# Altium integrated library NSC Interface.IntLib: 511 symbols (part 15 of 17)
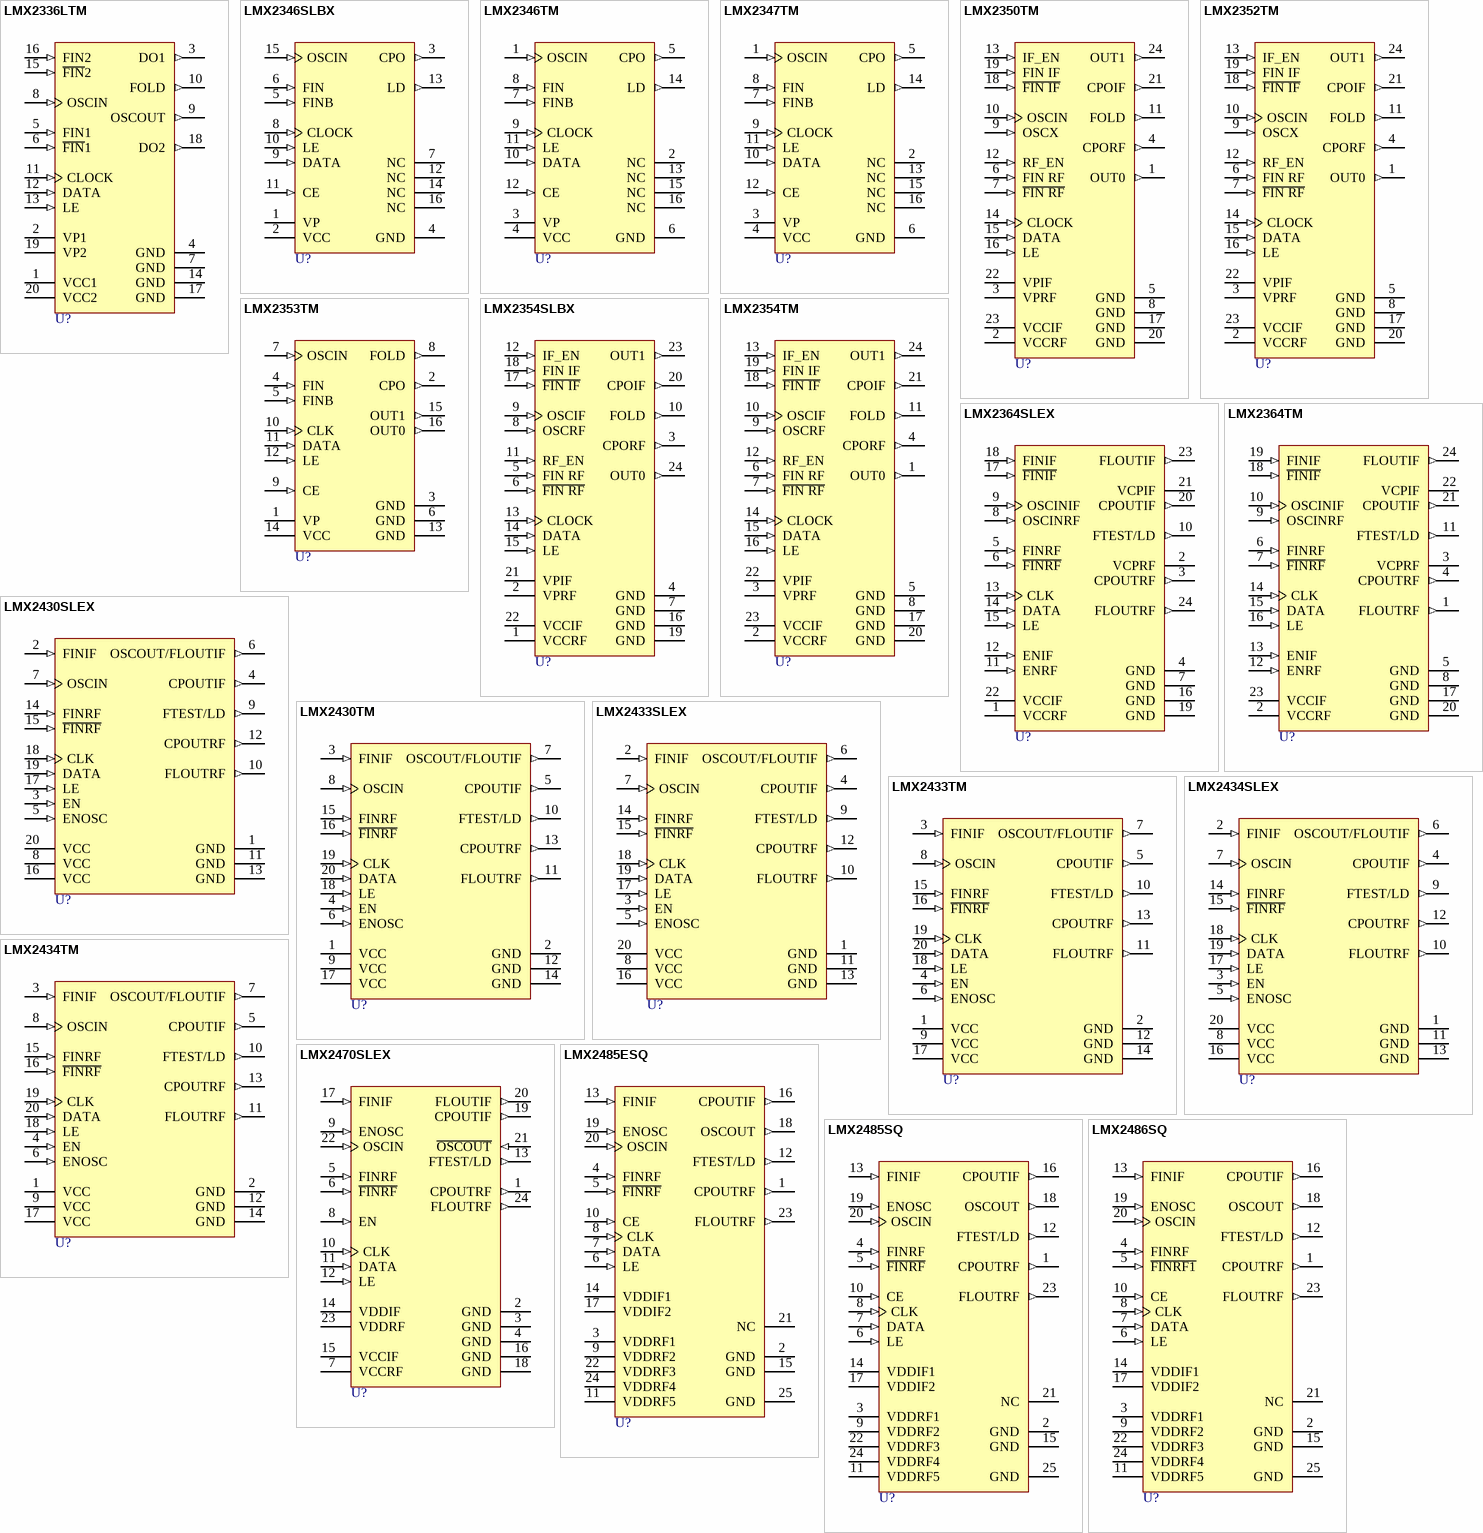
[diagram p56: symbols LMX2336LTM to LMX2486SQ]

## LMX2485SQ
designator U?
Delta-Sigma Low Power Dual PLL for RF Personal Communications; PartNumber: LMX2485SQ; Manufacturer: National Semiconductor; CompType: Interface IC; PackageTopMarking: NS*UZXYTT*X2485DD; PowerWise: N; Published: 4-Dec-2008; DatasheetVersion: Feb-2008; PackageVersion: revB, Aug-2003; PackageReference: SQA24A; Publisher: Altium Limited; PackageDescription: LLP, Plastic, Quad, 4 x 4 x 0.8mm Body, 24 Lead, 0.5mm Pitch, No Pullback; RoHS: Y; PinCount: 24; DigiKeyPartNumber: LMX2485SQTR-ND; Code_JEDEC: MO-220-WGGD-6; ComponentLink1Description: LMX2485 Datasheet; ComponentLink1URL: http://www.national.com/ds/LM/LMX2485.pdf; ComponentLink2Description: LMX2485 Web Page; ComponentLink2URL: http://www.national.com/pf/LM/LMX2485.html; ComponentLink3Description: SQA24A Package Page; ComponentLink3URL: http://www.national.com/packaging/folders/sqa24a.html
footprint SQA24A (QFN, 24-Leads, Body 4x4mm, Pitch 0.5mm, NSC Recommended)
pins: 1 CPOUTRF (out), 2 GND (power), 3 VDDRF1 (power), 4 FINRF (in), 5 ~{FINRF} (in), 6 LE (in), 7 DATA (in), 8 CLK (in), 9 VDDRF2 (power), 10 CE (in), 11 VDDRF5 (power), 12 FTEST/LD (out), 13 FINIF (in), 14 VDDIF1 (power), 15 GND (power), 16 CPOUTIF (out), 17 VDDIF2 (power), 18 OSCOUT (out), 19 ENOSC (in), 20 OSCIN (in), 21 NC, 22 VDDRF3 (power), 23 FLOUTRF (out), 24 VDDRF4 (power), 25 GND (power)

## LMX2486SQ
designator U?
Delta-Sigma Low Power Dual PLL for RF Personal Communications; PartNumber: LMX2486SQ; Manufacturer: National Semiconductor; CompType: Interface IC; PackageTopMarking: NS*UZXYTT*L2486SQ; PowerWise: N; Published: 4-Dec-2008; DatasheetVersion: Jan-2006; PackageVersion: revB, Aug-2003; PackageReference: SQA24A; Publisher: Altium Limited; PackageDescription: LLP, Plastic, Quad, 4 x 4 x 0.8mm Body, 24 Lead, 0.5mm Pitch, No Pullback; RoHS: Y; PinCount: 24; DigiKeyPartNumber: LMX2486SQTR-ND; Code_JEDEC: MO-220-WGGD-6; ComponentLink1Description: LMX2486 Datasheet; ComponentLink1URL: http://www.national.com/ds/LM/LMX2486.pdf; ComponentLink2Description: LMX2486 Web Page; ComponentLink2URL: http://www.national.com/pf/LM/LMX2486.html; ComponentLink3Description: SQA24A Package Page; ComponentLink3URL: http://www.national.com/packaging/folders/sqa24a.html
footprint SQA24A (QFN, 24-Leads, Body 4x4mm, Pitch 0.5mm, NSC Recommended)
pins: 1 CPOUTRF (out), 2 GND (power), 3 VDDRF1 (power), 4 FINRF (in), 5 ~{FINRF1} (in), 6 LE (in), 7 DATA (in), 8 CLK (in), 9 VDDRF2 (power), 10 CE (in), 11 VDDRF5 (power), 12 FTEST/LD (out), 13 FINIF (in), 14 VDDIF1 (power), 15 GND (power), 16 CPOUTIF (out), 17 VDDIF2 (power), 18 OSCOUT (out), 19 ENOSC (in), 20 OSCIN (in), 21 NC, 22 VDDRF3 (power), 23 FLOUTRF (out), 24 VDDRF4 (power), 25 GND (power)

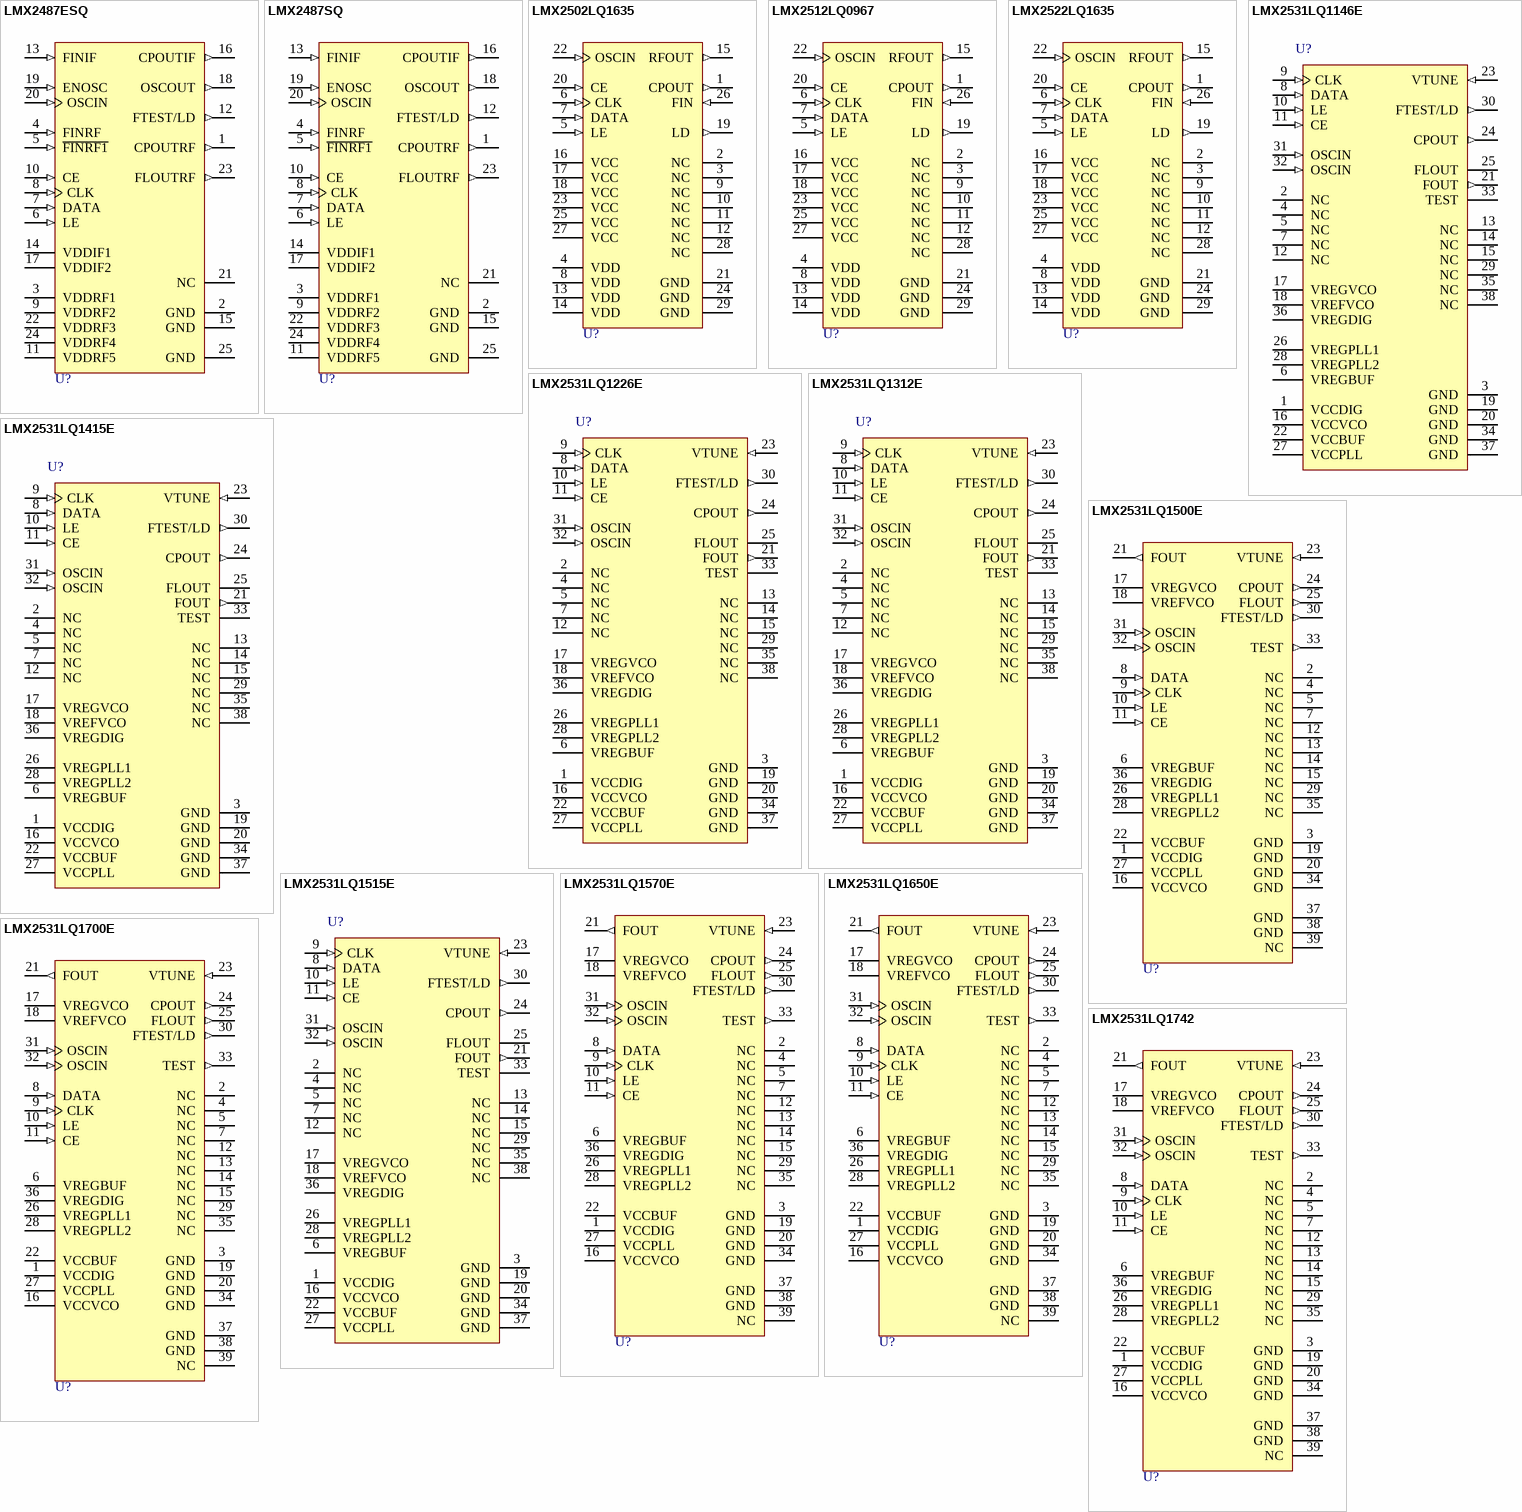
[diagram p36: symbols LMX2487ESQ to LMX2531LQ1742]

## LMX2487ESQ
designator U?
Delta-Sigma Low Power Dual PLL for RF Personal Communications; PartNumber: LMX2487ESQ; Manufacturer: National Semiconductor; CompType: Interface IC; PackageTopMarking: NS*UZXYTT*2487EDD; PowerWise: N; Published: 4-Dec-2008; DatasheetVersion: May-2007; PackageVersion: revB, Aug-2003; PackageReference: SQA24A; Publisher: Altium Limited; PackageDescription: LLP, Plastic, Quad, 4 x 4 x 0.8mm Body, 24 Lead, 0.5mm Pitch, No Pullback; RoHS: Y; PinCount: 24; DigiKeyPartNumber: LMX2487ESQTR-ND; Code_JEDEC: MO-220-WGGD-6; ComponentLink1Description: LMX2487E Datasheet; ComponentLink1URL: http://www.national.com/ds/LM/LMX2487E.pdf; ComponentLink2Description: LMX2487E Web Page; ComponentLink2URL: http://www.national.com/pf/LM/LMX2487E.html; ComponentLink3Description: SQA24A Package Page; ComponentLink3URL: http://www.national.com/packaging/folders/sqa24a.html
footprint SQA24A (QFN, 24-Leads, Body 4x4mm, Pitch 0.5mm, NSC Recommended)
pins: 1 CPOUTRF (out), 2 GND (power), 3 VDDRF1 (power), 4 FINRF (in), 5 ~{FINRF1} (in), 6 LE (in), 7 DATA (in), 8 CLK (in), 9 VDDRF2 (power), 10 CE (in), 11 VDDRF5 (power), 12 FTEST/LD (out), 13 FINIF (in), 14 VDDIF1 (power), 15 GND (power), 16 CPOUTIF (out), 17 VDDIF2 (power), 18 OSCOUT (out), 19 ENOSC (in), 20 OSCIN (in), 21 NC, 22 VDDRF3 (power), 23 FLOUTRF (out), 24 VDDRF4 (power), 25 GND (power)

## LMX2487SQ
designator U?
Delta-Sigma Low Power Dual PLL for RF Personal Communications; PartNumber: LMX2487SQ; Manufacturer: National Semiconductor; CompType: Interface IC; PackageTopMarking: NS*UZXYTT*L2487SQ; PowerWise: N; Published: 4-Dec-2008; DatasheetVersion: Apr-2008; PackageVersion: revB, Aug-2003; PackageReference: SQA24A; Publisher: Altium Limited; PackageDescription: LLP, Plastic, Quad, 4 x 4 x 0.8mm Body, 24 Lead, 0.5mm Pitch, No Pullback; RoHS: Y; PinCount: 24; DigiKeyPartNumber: LMX2487SQTR-ND; Code_JEDEC: MO-220-WGGD-6; ComponentLink1Description: LMX2487 Datasheet; ComponentLink1URL: http://www.national.com/ds/LM/LMX2487.pdf; ComponentLink2Description: LMX2487 Web Page; ComponentLink2URL: http://www.national.com/pf/LM/LMX2487.html; ComponentLink3Description: SQA24A Package Page; ComponentLink3URL: http://www.national.com/packaging/folders/sqa24a.html
footprint SQA24A (QFN, 24-Leads, Body 4x4mm, Pitch 0.5mm, NSC Recommended)
pins: 1 CPOUTRF (out), 2 GND (power), 3 VDDRF1 (power), 4 FINRF (in), 5 ~{FINRF1} (in), 6 LE (in), 7 DATA (in), 8 CLK (in), 9 VDDRF2 (power), 10 CE (in), 11 VDDRF5 (power), 12 FTEST/LD (out), 13 FINIF (in), 14 VDDIF1 (power), 15 GND (power), 16 CPOUTIF (out), 17 VDDIF2 (power), 18 OSCOUT (out), 19 ENOSC (in), 20 OSCIN (in), 21 NC, 22 VDDRF3 (power), 23 FLOUTRF (out), 24 VDDRF4 (power), 25 GND (power)

## LMX2502LQ1635
designator U?
Frequency Synthesizer System with Integrated VCOs; PartNumber: LMX2502LQ1635; Manufacturer: National Semiconductor; CompType: Interface IC; PackageTopMarking: NS*GZXYTT*25021635; PowerWise: N; Published: 4-Dec-2008; DatasheetVersion: Jun-2003; PackageVersion: revB, Jul-2001; PackageReference: LQA28A; Publisher: Altium Limited; PackageDescription: LLP, Plastic, Quad, 5 x 5 x 0.75mm Body, 28 Lead, 0.5mm Pitch; RoHS: Y; PinCount: 28; DigiKeyPartNumber: LMX2502LQ1635TR-ND; Code_JEDEC: MO-220-WHHD-1; ComponentLink1Description: LMX2502 Datasheet; ComponentLink1URL: http://www.national.com/ds/LM/LMX2502.pdf; ComponentLink2Description: LMX2502 Web Page; ComponentLink2URL: http://www.national.com/pf/LM/LMX2502.html; ComponentLink3Description: LQA28A Package Page; ComponentLink3URL: http://www.national.com/packaging/folders/lqa28a.html
footprint LQA28A (PQFN, 28-Leads, Body 5x5mm, Pitch 0.5mm, NSC Recommended)
pins: 1 CPOUT (out), 2 NC , 3 NC , 4 VDD  (power), 5 LE  (in), 6 CLK  (in), 7 DATA  (in), 8 VDD  (power), 9 NC , 10 NC , 11 NC , 12 NC , 13 VDD  (power), 14 VDD  (power), 15 RFOUT (out), 16 VCC  (power), 17 VCC  (power), 18 VCC  (power), 19 LD  (out), 20 CE  (in), 21 GND  (power), 22 OSCIN (in), 23 VCC  (power), 24 GND  (power), 25 VCC  (power), 26 FIN (in), 27 VCC  (power), 28 NC , 29 GND  (power)

## LMX2512LQ0967
designator U?
Frequency Synthesizer System with Integrated VCO; PartNumber: LMX2512LQ0967; Manufacturer: National Semiconductor; CompType: Interface IC; PackageTopMarking: NS*GZXYTT*25120967; PowerWise: N; Published: 4-Dec-2008; DatasheetVersion: Jun-2003; PackageVersion: revB, Jul-2001; PackageReference: LQA28A; Publisher: Altium Limited; PackageDescription: LLP, Plastic, Quad, 5 x 5 x 0.75mm Body, 28 Lead, 0.5mm Pitch; RoHS: Y; PinCount: 28; DigiKeyPartNumber: LMX2512LQ0967TR-ND; Code_JEDEC: MO-220-WHHD-1; ComponentLink1Description: LMX2512 Datasheet; ComponentLink1URL: http://www.national.com/ds/LM/LMX2512.pdf; ComponentLink2Description: LMX2512 Web Page; ComponentLink2URL: http://www.national.com/pf/LM/LMX2512.html; ComponentLink3Description: LQA28A Package Page; ComponentLink3URL: http://www.national.com/packaging/folders/lqa28a.html
footprint LQA28A (PQFN, 28-Leads, Body 5x5mm, Pitch 0.5mm, NSC Recommended)
pins: 1 CPOUT (out), 2 NC , 3 NC , 4 VDD  (power), 5 LE  (in), 6 CLK  (in), 7 DATA  (in), 8 VDD  (power), 9 NC , 10 NC , 11 NC , 12 NC , 13 VDD  (power), 14 VDD  (power), 15 RFOUT (out), 16 VCC  (power), 17 VCC  (power), 18 VCC  (power), 19 LD  (out), 20 CE  (in), 21 GND  (power), 22 OSCIN (in), 23 VCC  (power), 24 GND  (power), 25 VCC  (power), 26 FIN (in), 27 VCC  (power), 28 NC , 29 GND  (power)

## LMX2522LQ1635
designator U?
PLLatinum Dual Frequency Synthesizer System with Integrated VCOs; PartNumber: LMX2522LQ1635; Manufacturer: National Semiconductor; CompType: Interface IC; PackageTopMarking: NS*GZXYTT*25221635; PowerWise: N; Published: 4-Dec-2008; DatasheetVersion: Jun-2003; PackageVersion: revB, Jul-2001; PackageReference: LQA28A; Publisher: Altium Limited; PackageDescription: LLP, Plastic, Quad, 5 x 5 x 0.75mm Body, 28 Lead, 0.5mm Pitch; RoHS: O; PinCount: 28; DigiKeyPartNumber: LMX2522LQ1635TR-ND; Code_JEDEC: MO-220-WHHD-1; ComponentLink1Description: LMX2522 Datasheet; ComponentLink1URL: http://www.national.com/ds/LM/LMX2522.pdf; ComponentLink2Description: LMX2522 Web Page; ComponentLink2URL: http://www.national.com/pf/LM/LMX2522.html; ComponentLink3Description: LQA28A Package Page; ComponentLink3URL: http://www.national.com/packaging/folders/lqa28a.html
footprint LQA28A (PQFN, 28-Leads, Body 5x5mm, Pitch 0.5mm, NSC Recommended)
pins: 1 CPOUT (out), 2 NC , 3 NC , 4 VDD  (power), 5 LE  (in), 6 CLK  (in), 7 DATA  (in), 8 VDD  (power), 9 NC , 10 NC , 11 NC , 12 NC , 13 VDD  (power), 14 VDD  (power), 15 RFOUT (out), 16 VCC  (power), 17 VCC  (power), 18 VCC  (power), 19 LD  (out), 20 CE  (in), 21 GND  (power), 22 OSCIN (in), 23 VCC  (power), 24 GND  (power), 25 VCC  (power), 26 FIN (in), 27 VCC  (power), 28 NC , 29 GND  (power)

## LMX2531LQ1146E
designator U?
High Performance Frequency Synthesizer System with Integrated VCO; PartNumber: LMX2531LQ1146E; Manufacturer: National Semiconductor; CompType: Interface IC; PackageTopMarking: NS*UZXYTT*311146E; PowerWise: Y; Published: 4-Dec-2008; DatasheetVersion: Jun-2009; PackageVersion: revB, Feb-2008; PackageReference: LQA36D; Publisher: Altium Limited; RoHS: Y; PinCount: 36; DigiKeyPartNumber: LMX2531LQ1146E-ND; ComponentLink1Description: LMX2531LQ1146E Datasheet; ComponentLink1URL: http://www.national.com/ds/LM/LMX2531LQ1146E.pdf; ComponentLink2Description: LMX2531LQ1146E Web Page; ComponentLink2URL: http://www.national.com/pf/LM/LMX2531LQ1146E.html; ComponentLink3Description: LQA36A Package Page; ComponentLink3URL: http://www.national.com/packaging/folders/lqa36a.html
footprint LQA36D (PQFN, 36-Leads, Body 6x6mm, Pitch 0.5mm, NSC Recommended)
pins: 1 VCCDIG (power), 2 NC, 3 GND (power), 4 NC, 5 NC, 6 VREGBUF (power), 7 NC, 8 DATA (in), 9 CLK (in), 10 LE (in), 11 CE (in), 12 NC, 13 NC, 14 NC, 15 NC, 16 VCCVCO (power), 17 VREGVCO (power), 18 VREFVCO (power), 19 GND (power), 20 GND (power), 21 FOUT (out), 22 VCCBUF (power), 23 VTUNE (in), 24 CPOUT (out), 25 FLOUT (oc), 26 VREGPLL1 (power), 27 VCCPLL (power), 28 VREGPLL2 (power), 29 NC, 30 FTEST/LD (out), 31 OSCIN (in), 32 OSCIN (in), 33 TEST, 34 GND (power), 35 NC, 36 VREGDIG (power), 37 GND, 38 NC

## LMX2531LQ1226E
designator U?
High Performance Frequency Synthesizer System with Integrated VCO; PartNumber: LMX2531LQ1226E; Manufacturer: National Semiconductor; CompType: Interface IC; PackageTopMarking: NS*UZXYTT*311226E; PowerWise: Y; Published: 4-Dec-2008; DatasheetVersion: Apr-2008; PackageVersion: revB, Feb-2008; PackageReference: LQA36D; Publisher: Altium Limited; RoHS: Y; PinCount: 36; DigiKeyPartNumber: LMX2531LQ1226E-ND; ComponentLink1Description: LMX2531LQ1226E Datasheet; ComponentLink1URL: http://www.national.com/ds/LM/LMX2531LQ1226E.pdf; ComponentLink2Description: LMX2531LQ1226E Web Page; ComponentLink2URL: http://www.national.com/pf/LM/LMX2531LQ1226E.html; ComponentLink3Description: LQA36A Package Page; ComponentLink3URL: http://www.national.com/packaging/folders/lqa36a.html
footprint LQA36D (PQFN, 36-Leads, Body 6x6mm, Pitch 0.5mm, NSC Recommended)
pins: 1 VCCDIG (power), 2 NC, 3 GND (power), 4 NC, 5 NC, 6 VREGBUF (power), 7 NC, 8 DATA (in), 9 CLK (in), 10 LE (in), 11 CE (in), 12 NC, 13 NC, 14 NC, 15 NC, 16 VCCVCO (power), 17 VREGVCO (power), 18 VREFVCO (power), 19 GND (power), 20 GND (power), 21 FOUT (out), 22 VCCBUF (power), 23 VTUNE (in), 24 CPOUT (out), 25 FLOUT (oc), 26 VREGPLL1 (power), 27 VCCPLL (power), 28 VREGPLL2 (power), 29 NC, 30 FTEST/LD (out), 31 OSCIN (in), 32 OSCIN (in), 33 TEST, 34 GND (power), 35 NC, 36 VREGDIG (power), 37 GND, 38 NC

## LMX2531LQ1312E
designator U?
High Performance Frequency Synthesizer System with Integrated VCO; PartNumber: LMX2531LQ1312E; Manufacturer: National Semiconductor; CompType: Interface IC; PackageTopMarking: NS*UZXYTT*311312E; PowerWise: Y; Published: 4-Dec-2008; DatasheetVersion: Apr-2008; PackageVersion: revB, Feb-2008; PackageReference: LQA36D; Publisher: Altium Limited; RoHS: Y; PinCount: 36; DigiKeyPartNumber: LMX2531LQ1312E-ND; ComponentLink1Description: LMX2531LQ1312E Datasheet; ComponentLink1URL: http://www.national.com/ds/LM/LMX2531LQ1312E.pdf; ComponentLink2Description: LMX2531LQ1312E Web Page; ComponentLink2URL: http://www.national.com/pf/LM/LMX2531LQ1312E.html; ComponentLink3Description: LQA36A Package Page; ComponentLink3URL: http://www.national.com/packaging/folders/lqa36a.html
footprint LQA36D (PQFN, 36-Leads, Body 6x6mm, Pitch 0.5mm, NSC Recommended)
pins: 1 VCCDIG (power), 2 NC, 3 GND (power), 4 NC, 5 NC, 6 VREGBUF (power), 7 NC, 8 DATA (in), 9 CLK (in), 10 LE (in), 11 CE (in), 12 NC, 13 NC, 14 NC, 15 NC, 16 VCCVCO (power), 17 VREGVCO (power), 18 VREFVCO (power), 19 GND (power), 20 GND (power), 21 FOUT (out), 22 VCCBUF (power), 23 VTUNE (in), 24 CPOUT (out), 25 FLOUT (oc), 26 VREGPLL1 (power), 27 VCCPLL (power), 28 VREGPLL2 (power), 29 NC, 30 FTEST/LD (out), 31 OSCIN (in), 32 OSCIN (in), 33 TEST, 34 GND (power), 35 NC, 36 VREGDIG (power), 37 GND, 38 NC

## LMX2531LQ1415E
designator U?
High Performance Frequency Synthesizer System with Integrated VCO; PartNumber: LMX2531LQ1415E; Manufacturer: National Semiconductor; CompType: Interface IC; PackageTopMarking: NS*UZXYTT*311415E; PowerWise: Y; Published: 4-Dec-2008; DatasheetVersion: Apr-2008; PackageVersion: revB, Feb-2008; PackageReference: LQA36D; Publisher: Altium Limited; RoHS: Y; PinCount: 36; DigiKeyPartNumber: LMX2531LQ1415E-ND; ComponentLink1Description: LMX2531LQ1415E Datasheet; ComponentLink1URL: http://www.national.com/ds/LM/LMX2531LQ1415E.pdf; ComponentLink2Description: LMX2531LQ1415E Web Page; ComponentLink2URL: http://www.national.com/pf/LM/LMX2531LQ1415E.html; ComponentLink3Description: LQA36A Package Page; ComponentLink3URL: http://www.national.com/packaging/folders/lqa36a.html
footprint LQA36D (PQFN, 36-Leads, Body 6x6mm, Pitch 0.5mm, NSC Recommended)
pins: 1 VCCDIG (power), 2 NC, 3 GND (power), 4 NC, 5 NC, 6 VREGBUF (power), 7 NC, 8 DATA (in), 9 CLK (in), 10 LE (in), 11 CE (in), 12 NC, 13 NC, 14 NC, 15 NC, 16 VCCVCO (power), 17 VREGVCO (power), 18 VREFVCO (power), 19 GND (power), 20 GND (power), 21 FOUT (out), 22 VCCBUF (power), 23 VTUNE (in), 24 CPOUT (out), 25 FLOUT (oc), 26 VREGPLL1 (power), 27 VCCPLL (power), 28 VREGPLL2 (power), 29 NC, 30 FTEST/LD (out), 31 OSCIN (in), 32 OSCIN (in), 33 TEST, 34 GND (power), 35 NC, 36 VREGDIG (power), 37 GND, 38 NC

## LMX2531LQ1500E
designator U?
High Performance Frequency Synthesizer System with Integrated VCO; PartNumber: LMX2531LQ1500E; Manufacturer: National Semiconductor; CompType: Interface IC; PackageTopMarking: NS*UZXYTT*311500EB; PowerWise: Y; Published: 4-Dec-2008; DatasheetVersion: May-2007; PackageVersion: revC, Oct-2003; PackageReference: LQA36A; Publisher: Altium Limited; PackageDescription: LLP, Plastic, Quad, 6 x 6 x 0.8mm Body, 36 Lead, 0.5mm Pitch, Custom; RoHS: Y; PinCount: 36; DigiKeyPartNumber: LMX2531LQ1500ETR-ND; ComponentLink1Description: LMX2531LQ1500E Datasheet; ComponentLink1URL: http://www.national.com/ds/LM/LMX2531LQ1500E.pdf; ComponentLink2Description: LMX2531LQ1500E Web Page; ComponentLink2URL: http://www.national.com/pf/LM/LMX2531LQ1500E.html; ComponentLink3Description: LQA36A Package Page; ComponentLink3URL: http://www.national.com/packaging/folders/lqa36a.html
footprint LQA36A (PQFN, 36-Leads, Body 6x6mm, Pitch 0.5mm, NSC Recommended)
pins: 1 VCCDIG (power), 2 NC, 3 GND (power), 4 NC, 5 NC, 6 VREGBUF (power), 7 NC, 8 DATA (in), 9 CLK (in), 10 LE (in), 11 CE (in), 12 NC, 13 NC, 14 NC, 15 NC, 16 VCCVCO (power), 17 VREGVCO (power), 18 VREFVCO (power), 19 GND (power), 20 GND (power), 21 FOUT (out), 22 VCCBUF (power), 23 VTUNE (in), 24 CPOUT (out), 25 FLOUT (out), 26 VREGPLL1 (power), 27 VCCPLL (power), 28 VREGPLL2 (power), 29 NC, 30 FTEST/LD (out), 31 OSCIN (in), 32 OSCIN (in), 33 TEST (out), 34 GND (power), 35 NC, 36 VREGDIG (power), 37 GND (power), 38 GND (power), 39 NC

## LMX2531LQ1515E
designator U?
High Performance Frequency Synthesizer System with Integrated VCO; PartNumber: LMX2531LQ1515E; Manufacturer: National Semiconductor; CompType: Interface IC; PackageTopMarking: NS*UZXYTT*311515E; PowerWise: Y; Published: 4-Dec-2008; DatasheetVersion: Apr-2008; PackageVersion: revB, Feb-2008; PackageReference: LQA36D; Publisher: Altium Limited; RoHS: Y; PinCount: 36; DigiKeyPartNumber: LMX2531LQ1515E-ND; ComponentLink1Description: LMX2531LQ1515E Datasheet; ComponentLink1URL: http://www.national.com/ds/LM/LMX2531LQ1515E.pdf; ComponentLink2Description: LMX2531LQ1515E Web Page; ComponentLink2URL: http://www.national.com/pf/LM/LMX2531LQ1515E.html; ComponentLink3Description: LQA36A Package Page; ComponentLink3URL: http://www.national.com/packaging/folders/lqa36a.html
footprint LQA36D (PQFN, 36-Leads, Body 6x6mm, Pitch 0.5mm, NSC Recommended)
pins: 1 VCCDIG (power), 2 NC, 3 GND (power), 4 NC, 5 NC, 6 VREGBUF (power), 7 NC, 8 DATA (in), 9 CLK (in), 10 LE (in), 11 CE (in), 12 NC, 13 NC, 14 NC, 15 NC, 16 VCCVCO (power), 17 VREGVCO (power), 18 VREFVCO (power), 19 GND (power), 20 GND (power), 21 FOUT (out), 22 VCCBUF (power), 23 VTUNE (in), 24 CPOUT (out), 25 FLOUT (oc), 26 VREGPLL1 (power), 27 VCCPLL (power), 28 VREGPLL2 (power), 29 NC, 30 FTEST/LD (out), 31 OSCIN (in), 32 OSCIN (in), 33 TEST, 34 GND (power), 35 NC, 36 VREGDIG (power), 37 GND, 38 NC

## LMX2531LQ1570E
designator U?
High Performance Frequency Synthesizer System with Integrated VCO; PartNumber: LMX2531LQ1570E; Manufacturer: National Semiconductor; CompType: Interface IC; PackageTopMarking: NS*UZXYTT*311570EB; PowerWise: Y; Published: 4-Dec-2008; DatasheetVersion: Apr-2008; PackageVersion: revC, Oct-2003; PackageReference: LQA36A; Publisher: Altium Limited; PackageDescription: LLP, Plastic, Quad, 6 x 6 x 0.8mm Body, 36 Lead, 0.5mm Pitch, Custom; RoHS: Y; PinCount: 36; DigiKeyPartNumber: LMX2531LQ1570ETR-ND; ComponentLink1Description: LMX2531LQ1570E Datasheet; ComponentLink1URL: http://www.national.com/ds/LM/LMX2531LQ1570E.pdf; ComponentLink2Description: LMX2531LQ1570E Web Page; ComponentLink2URL: http://www.national.com/pf/LM/LMX2531LQ1570E.html; ComponentLink3Description: LQA36A Package Page; ComponentLink3URL: http://www.national.com/packaging/folders/lqa36a.html
footprint LQA36A (PQFN, 36-Leads, Body 6x6mm, Pitch 0.5mm, NSC Recommended)
pins: 1 VCCDIG (power), 2 NC, 3 GND (power), 4 NC, 5 NC, 6 VREGBUF (power), 7 NC, 8 DATA (in), 9 CLK (in), 10 LE (in), 11 CE (in), 12 NC, 13 NC, 14 NC, 15 NC, 16 VCCVCO (power), 17 VREGVCO (power), 18 VREFVCO (power), 19 GND (power), 20 GND (power), 21 FOUT (out), 22 VCCBUF (power), 23 VTUNE (in), 24 CPOUT (out), 25 FLOUT (out), 26 VREGPLL1 (power), 27 VCCPLL (power), 28 VREGPLL2 (power), 29 NC, 30 FTEST/LD (out), 31 OSCIN (in), 32 OSCIN (in), 33 TEST (out), 34 GND (power), 35 NC, 36 VREGDIG (power), 37 GND (power), 38 GND (power), 39 NC

## LMX2531LQ1650E
designator U?
High Performance Frequency Synthesizer System with Integrated VCO; PartNumber: LMX2531LQ1650E; Manufacturer: National Semiconductor; CompType: Interface IC; PackageTopMarking: NS*UZXYTT*311650EA; PowerWise: Y; Published: 4-Dec-2008; DatasheetVersion: Apr-2008; PackageVersion: revC, Oct-2003; PackageReference: LQA36A; Publisher: Altium Limited; PackageDescription: LLP, Plastic, Quad, 6 x 6 x 0.8mm Body, 36 Lead, 0.5mm Pitch, Custom; RoHS: Y; PinCount: 36; DigiKeyPartNumber: LMX2531LQ1650ETR-ND; ComponentLink1Description: LMX2531LQ1650E Datasheet; ComponentLink1URL: http://www.national.com/ds/LM/LMX2531LQ1650E.pdf; ComponentLink2Description: LMX2531LQ1650E Web Page; ComponentLink2URL: http://www.national.com/pf/LM/LMX2531LQ1650E.html; ComponentLink3Description: LQA36A Package Page; ComponentLink3URL: http://www.national.com/packaging/folders/lqa36a.html
footprint LQA36A (PQFN, 36-Leads, Body 6x6mm, Pitch 0.5mm, NSC Recommended)
pins: 1 VCCDIG (power), 2 NC, 3 GND (power), 4 NC, 5 NC, 6 VREGBUF (power), 7 NC, 8 DATA (in), 9 CLK (in), 10 LE (in), 11 CE (in), 12 NC, 13 NC, 14 NC, 15 NC, 16 VCCVCO (power), 17 VREGVCO (power), 18 VREFVCO (power), 19 GND (power), 20 GND (power), 21 FOUT (out), 22 VCCBUF (power), 23 VTUNE (in), 24 CPOUT (out), 25 FLOUT (out), 26 VREGPLL1 (power), 27 VCCPLL (power), 28 VREGPLL2 (power), 29 NC, 30 FTEST/LD (out), 31 OSCIN (in), 32 OSCIN (in), 33 TEST (out), 34 GND (power), 35 NC, 36 VREGDIG (power), 37 GND (power), 38 GND (power), 39 NC

## LMX2531LQ1700E
designator U?
High Performance Frequency Synthesizer System with Integrated VCO; PartNumber: LMX2531LQ1700E; Manufacturer: National Semiconductor; CompType: Interface IC; PackageTopMarking: NS*UZXYTT*311700EB; PowerWise: Y; Published: 4-Dec-2008; DatasheetVersion: Apr-2008; PackageVersion: revC, Oct-2003; PackageReference: LQA36A; Publisher: Altium Limited; PackageDescription: LLP, Plastic, Quad, 6 x 6 x 0.8mm Body, 36 Lead, 0.5mm Pitch, Custom; RoHS: Y; PinCount: 36; DigiKeyPartNumber: LMX2531LQ1700ETR-ND; ComponentLink1Description: LMX2531LQ1700E Datasheet; ComponentLink1URL: http://www.national.com/ds/LM/LMX2531LQ1700E.pdf; ComponentLink2Description: LMX2531LQ1700E Web Page; ComponentLink2URL: http://www.national.com/pf/LM/LMX2531LQ1700E.html; ComponentLink3Description: LQA36A Package Page; ComponentLink3URL: http://www.national.com/packaging/folders/lqa36a.html
footprint LQA36A (PQFN, 36-Leads, Body 6x6mm, Pitch 0.5mm, NSC Recommended)
pins: 1 VCCDIG (power), 2 NC, 3 GND (power), 4 NC, 5 NC, 6 VREGBUF (power), 7 NC, 8 DATA (in), 9 CLK (in), 10 LE (in), 11 CE (in), 12 NC, 13 NC, 14 NC, 15 NC, 16 VCCVCO (power), 17 VREGVCO (power), 18 VREFVCO (power), 19 GND (power), 20 GND (power), 21 FOUT (out), 22 VCCBUF (power), 23 VTUNE (in), 24 CPOUT (out), 25 FLOUT (out), 26 VREGPLL1 (power), 27 VCCPLL (power), 28 VREGPLL2 (power), 29 NC, 30 FTEST/LD (out), 31 OSCIN (in), 32 OSCIN (in), 33 TEST (out), 34 GND (power), 35 NC, 36 VREGDIG (power), 37 GND (power), 38 GND (power), 39 NC

## LMX2531LQ1742
designator U?
High Performance Frequency Synthesizer System with Integrated VCO; PartNumber: LMX2531LQ1742; Manufacturer: National Semiconductor; CompType: Interface IC; PackageTopMarking: NS*UZXYTT*311742A; PowerWise: Y; Published: 4-Dec-2008; DatasheetVersion: Apr-2008; PackageVersion: revC, Oct-2003; PackageReference: LQA36A; Publisher: Altium Limited; PackageDescription: LLP, Plastic, Quad, 6 x 6 x 0.8mm Body, 36 Lead, 0.5mm Pitch, Custom; RoHS: Y; PinCount: 36; DigiKeyPartNumber: LMX2531LQ1742TR-ND; ComponentLink1Description: LMX2531LQ1742 Datasheet; ComponentLink1URL: http://www.national.com/ds/LM/LMX2531LQ1742.pdf; ComponentLink2Description: LMX2531LQ1742 Web Page; ComponentLink2URL: http://www.national.com/pf/LM/LMX2531LQ1742.html; ComponentLink3Description: LQA36A Package Page; ComponentLink3URL: http://www.national.com/packaging/folders/lqa36a.html
footprint LQA36A (PQFN, 36-Leads, Body 6x6mm, Pitch 0.5mm, NSC Recommended)
pins: 1 VCCDIG (power), 2 NC, 3 GND (power), 4 NC, 5 NC, 6 VREGBUF (power), 7 NC, 8 DATA (in), 9 CLK (in), 10 LE (in), 11 CE (in), 12 NC, 13 NC, 14 NC, 15 NC, 16 VCCVCO (power), 17 VREGVCO (power), 18 VREFVCO (power), 19 GND (power), 20 GND (power), 21 FOUT (out), 22 VCCBUF (power), 23 VTUNE (in), 24 CPOUT (out), 25 FLOUT (out), 26 VREGPLL1 (power), 27 VCCPLL (power), 28 VREGPLL2 (power), 29 NC, 30 FTEST/LD (out), 31 OSCIN (in), 32 OSCIN (in), 33 TEST (out), 34 GND (power), 35 NC, 36 VREGDIG (power), 37 GND (power), 38 GND (power), 39 NC

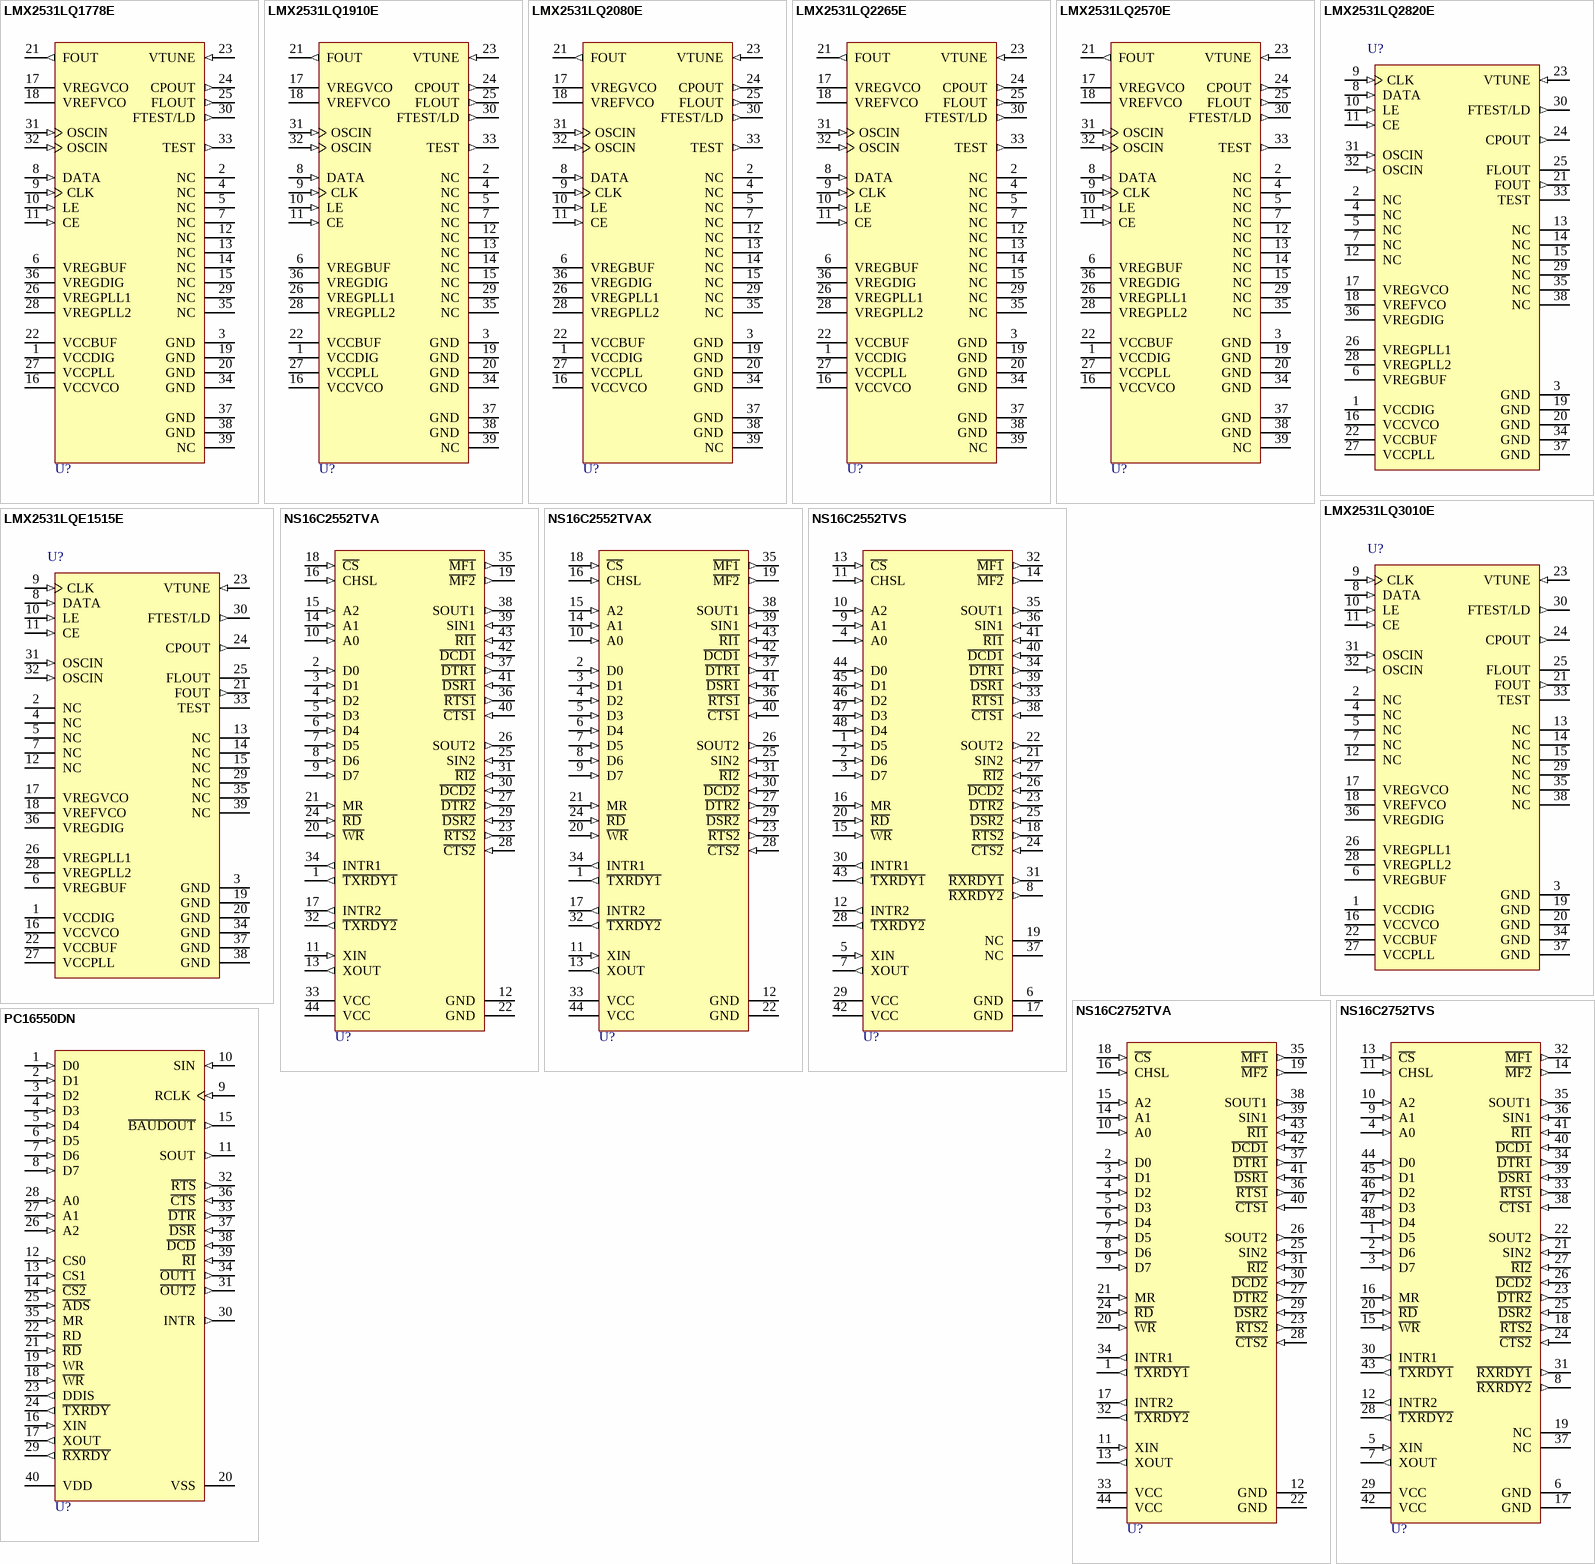
[diagram p37: symbols LMX2531LQ1778E to PC16550DN]

## LMX2531LQ1778E
designator U?
High Performance Frequency Synthesizer System with Integrated VCO; PartNumber: LMX2531LQ1778E; Manufacturer: National Semiconductor; CompType: Interface IC; PackageTopMarking: NS*UZXYTT*311778EA; PowerWise: Y; Published: 4-Dec-2008; DatasheetVersion: Apr-2008; PackageVersion: revC, Oct-2003; PackageReference: LQA36A; Publisher: Altium Limited; PackageDescription: LLP, Plastic, Quad, 6 x 6 x 0.8mm Body, 36 Lead, 0.5mm Pitch, Custom; RoHS: Y; PinCount: 36; DigiKeyPartNumber: LMX2531LQ1778ETR-ND; ComponentLink1Description: LMX2531LQ1778E Datasheet; ComponentLink1URL: http://www.national.com/ds/LM/LMX2531LQ1778E.pdf; ComponentLink2Description: LMX2531LQ1778E Web Page; ComponentLink2URL: http://www.national.com/pf/LM/LMX2531LQ1778E.html; ComponentLink3Description: LQA36A Package Page; ComponentLink3URL: http://www.national.com/packaging/folders/lqa36a.html
footprint LQA36A (PQFN, 36-Leads, Body 6x6mm, Pitch 0.5mm, NSC Recommended)
pins: 1 VCCDIG (power), 2 NC, 3 GND (power), 4 NC, 5 NC, 6 VREGBUF (power), 7 NC, 8 DATA (in), 9 CLK (in), 10 LE (in), 11 CE (in), 12 NC, 13 NC, 14 NC, 15 NC, 16 VCCVCO (power), 17 VREGVCO (power), 18 VREFVCO (power), 19 GND (power), 20 GND (power), 21 FOUT (out), 22 VCCBUF (power), 23 VTUNE (in), 24 CPOUT (out), 25 FLOUT (out), 26 VREGPLL1 (power), 27 VCCPLL (power), 28 VREGPLL2 (power), 29 NC, 30 FTEST/LD (out), 31 OSCIN (in), 32 OSCIN (in), 33 TEST (out), 34 GND (power), 35 NC, 36 VREGDIG (power), 37 GND (power), 38 GND (power), 39 NC

## LMX2531LQ1910E
designator U?
High Performance Frequency Synthesizer System with Integrated VCO; PartNumber: LMX2531LQ1910E; Manufacturer: National Semiconductor; CompType: Interface IC; PackageTopMarking: NS*UZXYTT*311910EB; PowerWise: Y; Published: 4-Dec-2008; DatasheetVersion: Apr-2008; PackageVersion: revC, Oct-2003; PackageReference: LQA36A; Publisher: Altium Limited; PackageDescription: LLP, Plastic, Quad, 6 x 6 x 0.8mm Body, 36 Lead, 0.5mm Pitch, Custom; RoHS: Y; PinCount: 36; DigiKeyPartNumber: LMX2531LQ1910ETR-ND; ComponentLink1Description: LMX2531LQ1910E Datasheet; ComponentLink1URL: http://www.national.com/ds/LM/LMX2531LQ1910E.pdf; ComponentLink2Description: LMX2531LQ1910E Web Page; ComponentLink2URL: http://www.national.com/pf/LM/LMX2531LQ1910E.html; ComponentLink3Description: LQA36A Package Page; ComponentLink3URL: http://www.national.com/packaging/folders/lqa36a.html
footprint LQA36A (PQFN, 36-Leads, Body 6x6mm, Pitch 0.5mm, NSC Recommended)
pins: 1 VCCDIG (power), 2 NC, 3 GND (power), 4 NC, 5 NC, 6 VREGBUF (power), 7 NC, 8 DATA (in), 9 CLK (in), 10 LE (in), 11 CE (in), 12 NC, 13 NC, 14 NC, 15 NC, 16 VCCVCO (power), 17 VREGVCO (power), 18 VREFVCO (power), 19 GND (power), 20 GND (power), 21 FOUT (out), 22 VCCBUF (power), 23 VTUNE (in), 24 CPOUT (out), 25 FLOUT (out), 26 VREGPLL1 (power), 27 VCCPLL (power), 28 VREGPLL2 (power), 29 NC, 30 FTEST/LD (out), 31 OSCIN (in), 32 OSCIN (in), 33 TEST (out), 34 GND (power), 35 NC, 36 VREGDIG (power), 37 GND (power), 38 GND (power), 39 NC

## LMX2531LQ2080E
designator U?
High Performance Frequency Synthesizer System with Integrated VCO; PartNumber: LMX2531LQ2080E; Manufacturer: National Semiconductor; CompType: Interface IC; PackageTopMarking: NS*UZXYTT*312080EB; PowerWise: Y; Published: 4-Dec-2008; DatasheetVersion: Apr-2008; PackageVersion: revC, Oct-2003; PackageReference: LQA36A; Publisher: Altium Limited; PackageDescription: LLP, Plastic, Quad, 6 x 6 x 0.8mm Body, 36 Lead, 0.5mm Pitch, Custom; RoHS: Y; PinCount: 36; DigiKeyPartNumber: LMX2531LQ2080ETR-ND; ComponentLink1Description: LMX2531LQ2080E Datasheet; ComponentLink1URL: http://www.national.com/ds/LM/LMX2531LQ2080E.pdf; ComponentLink2Description: LMX2531LQ2080E Web Page; ComponentLink2URL: http://www.national.com/pf/LM/LMX2531LQ2080E.html; ComponentLink3Description: LQA36A Package Page; ComponentLink3URL: http://www.national.com/packaging/folders/lqa36a.html
footprint LQA36A (PQFN, 36-Leads, Body 6x6mm, Pitch 0.5mm, NSC Recommended)
pins: 1 VCCDIG (power), 2 NC, 3 GND (power), 4 NC, 5 NC, 6 VREGBUF (power), 7 NC, 8 DATA (in), 9 CLK (in), 10 LE (in), 11 CE (in), 12 NC, 13 NC, 14 NC, 15 NC, 16 VCCVCO (power), 17 VREGVCO (power), 18 VREFVCO (power), 19 GND (power), 20 GND (power), 21 FOUT (out), 22 VCCBUF (power), 23 VTUNE (in), 24 CPOUT (out), 25 FLOUT (out), 26 VREGPLL1 (power), 27 VCCPLL (power), 28 VREGPLL2 (power), 29 NC, 30 FTEST/LD (out), 31 OSCIN (in), 32 OSCIN (in), 33 TEST (out), 34 GND (power), 35 NC, 36 VREGDIG (power), 37 GND (power), 38 GND (power), 39 NC

## LMX2531LQ2265E
designator U?
High Performance Frequency Synthesizer System with Integrated VCO; PartNumber: LMX2531LQ2265E; Manufacturer: National Semiconductor; CompType: Interface IC; PackageTopMarking: NS*UZXYTT*312265ED; PowerWise: Y; Published: 4-Dec-2008; DatasheetVersion: Apr-2008; PackageVersion: revC, Oct-2003; PackageReference: LQA36A; Publisher: Altium Limited; PackageDescription: LLP, Plastic, Quad, 6 x 6 x 0.8mm Body, 36 Lead, 0.5mm Pitch, Custom; RoHS: O; PinCount: 36; DigiKeyPartNumber: LMX2531LQ2265ETR-ND; ComponentLink1Description: LMX2531LQ2265E Datasheet; ComponentLink1URL: http://www.national.com/ds/LM/LMX2531LQ2265E.pdf; ComponentLink2Description: LMX2531LQ2265E Web Page; ComponentLink2URL: http://www.national.com/pf/LM/LMX2531LQ2265E.html; ComponentLink3Description: LQA36A Package Page; ComponentLink3URL: http://www.national.com/packaging/folders/lqa36a.html
footprint LQA36A (PQFN, 36-Leads, Body 6x6mm, Pitch 0.5mm, NSC Recommended)
pins: 1 VCCDIG (power), 2 NC, 3 GND (power), 4 NC, 5 NC, 6 VREGBUF (power), 7 NC, 8 DATA (in), 9 CLK (in), 10 LE (in), 11 CE (in), 12 NC, 13 NC, 14 NC, 15 NC, 16 VCCVCO (power), 17 VREGVCO (power), 18 VREFVCO (power), 19 GND (power), 20 GND (power), 21 FOUT (out), 22 VCCBUF (power), 23 VTUNE (in), 24 CPOUT (out), 25 FLOUT (out), 26 VREGPLL1 (power), 27 VCCPLL (power), 28 VREGPLL2 (power), 29 NC, 30 FTEST/LD (out), 31 OSCIN (in), 32 OSCIN (in), 33 TEST (out), 34 GND (power), 35 NC, 36 VREGDIG (power), 37 GND (power), 38 GND (power), 39 NC

## LMX2531LQ2570E
designator U?
High Performance Frequency Synthesizer System with Integrated VCO; PartNumber: LMX2531LQ2570E; Manufacturer: National Semiconductor; CompType: Interface IC; PackageTopMarking: NS*UZXYTT*312570EC; PowerWise: Y; Published: 4-Dec-2008; DatasheetVersion: Apr-2008; PackageVersion: revC, Oct-2003; PackageReference: LQA36A; Publisher: Altium Limited; PackageDescription: LLP, Plastic, Quad, 6 x 6 x 0.8mm Body, 36 Lead, 0.5mm Pitch, Custom; RoHS: Y; PinCount: 36; DigiKeyPartNumber: LMX2531LQ2570ETR-ND; ComponentLink1Description: LMX2531LQ2570E Datasheet; ComponentLink1URL: http://www.national.com/ds/LM/LMX2531LQ2570E.pdf; ComponentLink2Description: LMX2531LQ2570E Web Page; ComponentLink2URL: http://www.national.com/pf/LM/LMX2531LQ2570E.html; ComponentLink3Description: LQA36A Package Page; ComponentLink3URL: http://www.national.com/packaging/folders/lqa36a.html
footprint LQA36A (PQFN, 36-Leads, Body 6x6mm, Pitch 0.5mm, NSC Recommended)
pins: 1 VCCDIG (power), 2 NC, 3 GND (power), 4 NC, 5 NC, 6 VREGBUF (power), 7 NC, 8 DATA (in), 9 CLK (in), 10 LE (in), 11 CE (in), 12 NC, 13 NC, 14 NC, 15 NC, 16 VCCVCO (power), 17 VREGVCO (power), 18 VREFVCO (power), 19 GND (power), 20 GND (power), 21 FOUT (out), 22 VCCBUF (power), 23 VTUNE (in), 24 CPOUT (out), 25 FLOUT (out), 26 VREGPLL1 (power), 27 VCCPLL (power), 28 VREGPLL2 (power), 29 NC, 30 FTEST/LD (out), 31 OSCIN (in), 32 OSCIN (in), 33 TEST (out), 34 GND (power), 35 NC, 36 VREGDIG (power), 37 GND (power), 38 GND (power), 39 NC

## LMX2531LQ2820E
designator U?
High Performance Frequency Synthesizer System with Integrated VCO; PartNumber: LMX2531LQ2820E; Manufacturer: National Semiconductor; CompType: Interface IC; PackageTopMarking: NS*UZXYTT*312820E; PowerWise: Y; Published: 9-Oct-2009; DatasheetVersion: Jun-2009; PackageVersion: revB, Feb-2008; PackageReference: LQA36D; Publisher: Altium Limited; RoHS: Y; PinCount: 36; DigiKeyPartNumber: LMX2531LQ2820E-ND; ComponentLink1Description: LMX2531LQ2820E Datasheet; ComponentLink1URL: http://www.national.com/ds/LM/LMX2531LQ2820E.pdf; ComponentLink2Description: LMX2531LQ2820E Web Page; ComponentLink2URL: http://www.national.com/pf/LM/LMX2531LQ2820E.html; ComponentLink3Description: LQA36A Package Page; ComponentLink3URL: http://www.national.com/packaging/folders/lqa36a.html
footprint LQA36D (PQFN, 36-Leads, Body 6x6mm, Pitch 0.5mm, NSC Recommended)
pins: 1 VCCDIG (power), 2 NC, 3 GND (power), 4 NC, 5 NC, 6 VREGBUF (power), 7 NC, 8 DATA (in), 9 CLK (in), 10 LE (in), 11 CE (in), 12 NC, 13 NC, 14 NC, 15 NC, 16 VCCVCO (power), 17 VREGVCO (power), 18 VREFVCO (power), 19 GND (power), 20 GND (power), 21 FOUT (out), 22 VCCBUF (power), 23 VTUNE (in), 24 CPOUT (out), 25 FLOUT (oc), 26 VREGPLL1 (power), 27 VCCPLL (power), 28 VREGPLL2 (power), 29 NC, 30 FTEST/LD (out), 31 OSCIN (in), 32 OSCIN (in), 33 TEST, 34 GND (power), 35 NC, 36 VREGDIG (power), 37 GND, 38 NC

## LMX2531LQ3010E
designator U?
High Performance Frequency Synthesizer System with Integrated VCO; PartNumber: LMX2531LQ3010E; Manufacturer: National Semiconductor; CompType: Interface IC; PackageTopMarking: NS*UZXYTT*313010E; PowerWise: Y; Published: 9-Oct-2009; DatasheetVersion: Jun-2009; PackageVersion: revB, Feb-2008; PackageReference: LQA36D; Publisher: Altium Limited; RoHS: Y; PinCount: 36; DigiKeyPartNumber: LMX2531LQ3010E-ND; ComponentLink1Description: LMX2531LQ3010E Datasheet; ComponentLink1URL: http://www.national.com/ds/LM/LMX2531LQ3010E.pdf; ComponentLink2Description: LMX2531LQ3010E Web Page; ComponentLink2URL: http://www.national.com/pf/LM/LMX2531LQ3010E.html; ComponentLink3Description: LQA36A Package Page; ComponentLink3URL: http://www.national.com/packaging/folders/lqa36a.html
footprint LQA36D (PQFN, 36-Leads, Body 6x6mm, Pitch 0.5mm, NSC Recommended)
pins: 1 VCCDIG (power), 2 NC, 3 GND (power), 4 NC, 5 NC, 6 VREGBUF (power), 7 NC, 8 DATA (in), 9 CLK (in), 10 LE (in), 11 CE (in), 12 NC, 13 NC, 14 NC, 15 NC, 16 VCCVCO (power), 17 VREGVCO (power), 18 VREFVCO (power), 19 GND (power), 20 GND (power), 21 FOUT (out), 22 VCCBUF (power), 23 VTUNE (in), 24 CPOUT (out), 25 FLOUT (oc), 26 VREGPLL1 (power), 27 VCCPLL (power), 28 VREGPLL2 (power), 29 NC, 30 FTEST/LD (out), 31 OSCIN (in), 32 OSCIN (in), 33 TEST, 34 GND (power), 35 NC, 36 VREGDIG (power), 37 GND, 38 NC

## LMX2531LQE1515E
designator U?
High Performance Frequency Synthesizer System with Integrated VCO; PartNumber: LMX2531LQE1515E; Manufacturer: National Semiconductor; CompType: Interface IC; PackageTopMarking: NS*UZXYTT* 311515E; PowerWise: Y; Published: 4-Dec-2008; DatasheetVersion: Apr-2008; PackageVersion: revC, Oct-2003; PackageReference: LQA36A; Publisher: Altium Limited; RoHS: Y; PinCount: 36; DigiKeyPartNumber: LMX2531LQE1515ECT-ND; ComponentLink1Description: LMX2531LQ1515E Datasheet; ComponentLink1URL: http://www.national.com/ds/LM/LMX2531LQ1515E.pdf; ComponentLink2Description: LMX2531LQ1515E Web Page; ComponentLink2URL: http://www.national.com/pf/LM/LMX2531LQ1515E.html; ComponentLink3Description: LQA36A Package Page; ComponentLink3URL: http://www.national.com/packaging/folders/lqa36a.html
footprint LQA36A (PQFN, 36-Leads, Body 6x6mm, Pitch 0.5mm, NSC Recommended)
pins: 1 VCCDIG (power), 2 NC, 3 GND (power), 4 NC, 5 NC, 6 VREGBUF (power), 7 NC, 8 DATA (in), 9 CLK (in), 10 LE (in), 11 CE (in), 12 NC, 13 NC, 14 NC, 15 NC, 16 VCCVCO (power), 17 VREGVCO (power), 18 VREFVCO (power), 19 GND (power), 20 GND (power), 21 FOUT (out), 22 VCCBUF (power), 23 VTUNE (in), 24 CPOUT (out), 25 FLOUT (oc), 26 VREGPLL1 (power), 27 VCCPLL (power), 28 VREGPLL2 (power), 29 NC, 30 FTEST/LD (out), 31 OSCIN (in), 32 OSCIN (in), 33 TEST, 34 GND (power), 35 NC, 36 VREGDIG (power), 37 GND, 38 GND, 39 NC

## NS16C2552TVA
designator U?
Dual UART with 16-byte/64-byte FIFO's and up to 5 Mbit/s Data Rate; PartNumber: NS16C2552TVA; Manufacturer: National Semiconductor; CompType: Interface IC; PackageTopMarking: NSUZXYYTTE#*NS16C2552TVA; PowerWise: N; Published: 4-Dec-2008; DatasheetVersion: Dec-2006; PackageVersion: revK, Dec-1993; PackageReference: V44A; Publisher: Altium Limited; PackageDescription: Plastic Chip Carrier, Sq., .050mil Lead Pitch, 44 Lead; RoHS: Y; PinCount: 44; Code_IPC: PLCC-44; ComponentLink1Description: NS16C2552 Datasheet; ComponentLink1URL: http://www.national.com/ds/NS/NS16C2552.pdf; ComponentLink2Description: NS16C2552 Web Page; ComponentLink2URL: http://www.national.com/pf/NS/NS16C2552.html; ComponentLink3Description: V44A Package Page; ComponentLink3URL: http://www.national.com/packaging/folders/v44a.html
footprint V44A_N (Leaded Chip Carrier, 44-Leads, Body 16.6x16.6mm, Pitch 1.27mm, IPC Medium Density)
footprint V44A_L (Leaded Chip Carrier, 44-Leads, Body 16.6x16.6mm, Pitch 1.27mm, IPC High Density)
footprint V44A_M (Leaded Chip Carrier, 44-Leads, Body 16.6x16.6mm, Pitch 1.27mm, IPC Low Density)
pins: 1 ~{TXRDY1} (out), 2 D0 (in), 3 D1 (in), 4 D2 (in), 5 D3 (in), 6 D4 (in), 7 D5 (in), 8 D6 (in), 9 D7 (in), 10 A0 (in), 11 XIN (in), 12 GND (power), 13 XOUT (out), 14 A1 (in), 15 A2 (in), 16 CHSL (in), 17 INTR2 (out), 18 ~{CS} (in), 19 ~{MF2} (out), 20 ~{WR} (in), 21 MR (in), 22 GND (power), 23 ~{RTS2} (out), 24 ~{RD} (in), 25 SIN2 (in), 26 SOUT2 (out), 27 ~{DTR2} (out), 28 ~{CTS2} (in), 29 ~{DSR2} (in), 30 ~{DCD2} (in), 31 ~{RI2} (in), 32 ~{TXRDY2} (out), 33 VCC (power), 34 INTR1 (out), 35 ~{MF1} (out), 36 ~{RTS1} (out), 37 ~{DTR1} (out), 38 SOUT1 (out), 39 SIN1 (in), 40 ~{CTS1} (in), 41 ~{DSR1} (in), 42 ~{DCD1} (in), 43 ~{RI1} (in), 44 VCC (power)

## NS16C2552TVAX
designator U?
Dual UART with 16-byte/64-byte FIFO's and up to 5 Mbit/s Data Rate; PartNumber: NS16C2552TVAX; Manufacturer: National Semiconductor; CompType: Interface IC; PackageTopMarking: NSUZXYYTTE#*NS16C2552TVA*BBBBB; PowerWise: N; Published: 4-Dec-2008; DatasheetVersion: Dec-2006; PackageVersion: revK, Dec-1993; PackageReference: V44A; Publisher: Altium Limited; PackageDescription: Plastic Chip Carrier, Sq., .050mil Lead Pitch, 44 Lead; RoHS: Y; PinCount: 44; Code_IPC: PLCC-44; ComponentLink1Description: NS16C2552 Datasheet; ComponentLink1URL: http://www.national.com/ds/NS/NS16C2552.pdf; ComponentLink2Description: NS16C2552 Web Page; ComponentLink2URL: http://www.national.com/pf/NS/NS16C2552.html; ComponentLink3Description: V44A Package Page; ComponentLink3URL: http://www.national.com/packaging/folders/v44a.html
footprint V44A_N (Leaded Chip Carrier, 44-Leads, Body 16.6x16.6mm, Pitch 1.27mm, IPC Medium Density)
footprint V44A_L (Leaded Chip Carrier, 44-Leads, Body 16.6x16.6mm, Pitch 1.27mm, IPC High Density)
footprint V44A_M (Leaded Chip Carrier, 44-Leads, Body 16.6x16.6mm, Pitch 1.27mm, IPC Low Density)
pins: 1 ~{TXRDY1} (out), 2 D0 (in), 3 D1 (in), 4 D2 (in), 5 D3 (in), 6 D4 (in), 7 D5 (in), 8 D6 (in), 9 D7 (in), 10 A0 (in), 11 XIN (in), 12 GND (power), 13 XOUT (out), 14 A1 (in), 15 A2 (in), 16 CHSL (in), 17 INTR2 (out), 18 ~{CS} (in), 19 ~{MF2} (out), 20 ~{WR} (in), 21 MR (in), 22 GND (power), 23 ~{RTS2} (out), 24 ~{RD} (in), 25 SIN2 (in), 26 SOUT2 (out), 27 ~{DTR2} (out), 28 ~{CTS2} (in), 29 ~{DSR2} (in), 30 ~{DCD2} (in), 31 ~{RI2} (in), 32 ~{TXRDY2} (out), 33 VCC (power), 34 INTR1 (out), 35 ~{MF1} (out), 36 ~{RTS1} (out), 37 ~{DTR1} (out), 38 SOUT1 (out), 39 SIN1 (in), 40 ~{CTS1} (in), 41 ~{DSR1} (in), 42 ~{DCD1} (in), 43 ~{RI1} (in), 44 VCC (power)

## NS16C2552TVS
designator U?
Dual UART with 16-byte/64-byte FIFO's and up to 5 Mbit/s Data Rate; PartNumber: NS16C2552TVS; Manufacturer: National Semiconductor; CompType: Interface IC; PackageTopMarking: NSUZXYTT*NS16C2*552TVS; PowerWise: N; Published: 4-Dec-2008; DatasheetVersion: Dec-2006; PackageVersion: revA, Apr-2000; PackageReference: VBC48A; Publisher: Altium Limited; PackageDescription: TQFP, Jedec Metric, 7 x 7 x 1mm, 48 Lead, 0.5mm Pitch; RoHS: O; PinCount: 48; Code_JEDEC: MS-026-ABC; ComponentLink1Description: NS16C2552 Datasheet; ComponentLink1URL: http://www.national.com/ds/NS/NS16C2552.pdf; ComponentLink2Description: NS16C2552 Web Page; ComponentLink2URL: http://www.national.com/pf/NS/NS16C2552.html; ComponentLink3Description: VBC48A Package Page; ComponentLink3URL: http://www.national.com/packaging/folders/vbc48a.html
footprint VBC48A_N (Thin QFP, 48-Leads, Body 7x7mm, Pitch 0.5mm, IPC Medium Density)
footprint VBC48A_L (Thin QFP, 48-Leads, Body 7x7mm, Pitch 0.5mm, IPC High Density)
footprint VBC48A_M (Thin QFP, 48-Leads, Body 7x7mm, Pitch 0.5mm, IPC Low Density)
pins: 1 D5 (in), 2 D6 (in), 3 D7 (in), 4 A0 (in), 5 XIN (in), 6 GND (power), 7 XOUT (out), 8 ~{RXRDY2} (out), 9 A1 (in), 10 A2 (in), 11 CHSL (in), 12 INTR2 (out), 13 ~{CS} (in), 14 ~{MF2} (out), 15 ~{WR} (in), 16 MR (in), 17 GND (power), 18 ~{RTS2} (out), 19 NC, 20 ~{RD} (in), 21 SIN2 (in), 22 SOUT2 (out), 23 ~{DTR2} (out), 24 ~{CTS2} (in), 25 ~{DSR2} (in), 26 ~{DCD2} (in), 27 ~{RI2} (in), 28 ~{TXRDY2} (out), 29 VCC (power), 30 INTR1 (out), 31 ~{RXRDY1} (out), 32 ~{MF1} (out), 33 ~{RTS1} (out), 34 ~{DTR1} (out), 35 SOUT1 (out), 36 SIN1 (in), 37 NC, 38 ~{CTS1} (in), 39 ~{DSR1} (in), 40 ~{DCD1} (in), 41 ~{RI1} (in), 42 VCC (power), 43 ~{TXRDY1} (out), 44 D0 (in), 45 D1 (in), 46 D2 (in), 47 D3 (in), 48 D4 (in)

## NS16C2752TVA
designator U?
Dual UART with 16-byte/64-byte FIFO's and up to 5 Mbit/s Data Rate; PartNumber: NS16C2752TVA; Manufacturer: National Semiconductor; CompType: Interface IC; PackageTopMarking: NSUZXYYTTE#*NS16C2752TVA*BBBBB; PowerWise: N; Published: 4-Dec-2008; DatasheetVersion: Dec-2006; PackageVersion: revK, Dec-1993; PackageReference: V44A; Publisher: Altium Limited; PackageDescription: Plastic Chip Carrier, Sq., .050mil Lead Pitch, 44 Lead; RoHS: Y; PinCount: 44; Code_IPC: PLCC-44; ComponentLink1Description: NS16C2752 Datasheet; ComponentLink1URL: http://www.national.com/ds/NS/NS16C2552.pdf; ComponentLink2Description: NS16C2752 Web Page; ComponentLink2URL: http://www.national.com/pf/NS/NS16C2752.html; ComponentLink3Description: V44A Package Page; ComponentLink3URL: http://www.national.com/packaging/folders/v44a.html
footprint V44A_N (Leaded Chip Carrier, 44-Leads, Body 16.6x16.6mm, Pitch 1.27mm, IPC Medium Density)
footprint V44A_L (Leaded Chip Carrier, 44-Leads, Body 16.6x16.6mm, Pitch 1.27mm, IPC High Density)
footprint V44A_M (Leaded Chip Carrier, 44-Leads, Body 16.6x16.6mm, Pitch 1.27mm, IPC Low Density)
pins: 1 ~{TXRDY1} (out), 2 D0 (in), 3 D1 (in), 4 D2 (in), 5 D3 (in), 6 D4 (in), 7 D5 (in), 8 D6 (in), 9 D7 (in), 10 A0 (in), 11 XIN (in), 12 GND (power), 13 XOUT (out), 14 A1 (in), 15 A2 (in), 16 CHSL (in), 17 INTR2 (out), 18 ~{CS} (in), 19 ~{MF2} (out), 20 ~{WR} (in), 21 MR (in), 22 GND (power), 23 ~{RTS2} (out), 24 ~{RD} (in), 25 SIN2 (in), 26 SOUT2 (out), 27 ~{DTR2} (out), 28 ~{CTS2} (in), 29 ~{DSR2} (in), 30 ~{DCD2} (in), 31 ~{RI2} (in), 32 ~{TXRDY2} (out), 33 VCC (power), 34 INTR1 (out), 35 ~{MF1} (out), 36 ~{RTS1} (out), 37 ~{DTR1} (out), 38 SOUT1 (out), 39 SIN1 (in), 40 ~{CTS1} (in), 41 ~{DSR1} (in), 42 ~{DCD1} (in), 43 ~{RI1} (in), 44 VCC (power)

## NS16C2752TVS
designator U?
Dual UART with 16-byte/64-byte FIFO's and up to 5 Mbit/s Data Rate; PartNumber: NS16C2752TVS; Manufacturer: National Semiconductor; CompType: Interface IC; PackageTopMarking: NSUZXYTT*NS16C2*752TVS; PowerWise: N; Published: 4-Dec-2008; DatasheetVersion: Dec-2006; PackageVersion: revA, Apr-2000; PackageReference: VBC48A; Publisher: Altium Limited; PackageDescription: TQFP, Jedec Metric, 7 x 7 x 1mm, 48 Lead, 0.5mm Pitch; RoHS: O; PinCount: 48; Code_JEDEC: MS-026-ABC; ComponentLink1Description: NS16C2752 Datasheet; ComponentLink1URL: http://www.national.com/ds/NS/NS16C2752.pdf; ComponentLink2Description: NS16C2752 Web Page; ComponentLink2URL: http://www.national.com/pf/NS/NS16C2752.html; ComponentLink3Description: VBC48A Package Page; ComponentLink3URL: http://www.national.com/packaging/folders/vbc48a.html
footprint VBC48A_N (Thin QFP, 48-Leads, Body 7x7mm, Pitch 0.5mm, IPC Medium Density)
footprint VBC48A_L (Thin QFP, 48-Leads, Body 7x7mm, Pitch 0.5mm, IPC High Density)
footprint VBC48A_M (Thin QFP, 48-Leads, Body 7x7mm, Pitch 0.5mm, IPC Low Density)
pins: 1 D5 (in), 2 D6 (in), 3 D7 (in), 4 A0 (in), 5 XIN (in), 6 GND (power), 7 XOUT (out), 8 ~{RXRDY2} (out), 9 A1 (in), 10 A2 (in), 11 CHSL (in), 12 INTR2 (out), 13 ~{CS} (in), 14 ~{MF2} (out), 15 ~{WR} (in), 16 MR (in), 17 GND (power), 18 ~{RTS2} (out), 19 NC, 20 ~{RD} (in), 21 SIN2 (in), 22 SOUT2 (out), 23 ~{DTR2} (out), 24 ~{CTS2} (in), 25 ~{DSR2} (in), 26 ~{DCD2} (in), 27 ~{RI2} (in), 28 ~{TXRDY2} (out), 29 VCC (power), 30 INTR1 (out), 31 ~{RXRDY1} (out), 32 ~{MF1} (out), 33 ~{RTS1} (out), 34 ~{DTR1} (out), 35 SOUT1 (out), 36 SIN1 (in), 37 NC, 38 ~{CTS1} (in), 39 ~{DSR1} (in), 40 ~{DCD1} (in), 41 ~{RI1} (in), 42 VCC (power), 43 ~{TXRDY1} (out), 44 D0 (in), 45 D1 (in), 46 D2 (in), 47 D3 (in), 48 D4 (in)

## PC16550DN
designator U?
Universal Asynchronous Receiver/Transmitter with FIFO's; PartNumber: PC16550DN; Manufacturer: National Semiconductor; CompType: Interface IC; PackageTopMarking: NSUZXYYTTE#*PC16550DN*PATENTED; PowerWise: N; Published: 4-Dec-2008; DatasheetVersion: Jun-1995; PackageVersion: revE, Nov-1983; PackageReference: N40A; Publisher: Altium Limited; PackageDescription: 40 Lead Molded Dip (N); RoHS: Y; PinCount: 40; DigiKeyPartNumber: PC16550DN-ND; ComponentLink1Description: PC16550D Datasheet; ComponentLink1URL: http://www.national.com/ds/PC/PC16550D.pdf; ComponentLink2Description: PC16550D Web Page; ComponentLink2URL: http://www.national.com/pf/PC/PC16550D.html; ComponentLink3Description: N40A Package Page; ComponentLink3URL: http://www.national.com/packaging/folders/n40a.html
footprint N40A (DIP, 40-Leads, Row Spacing 15.24mm, Pitch 2.54mm, Body 52.24x13.97mm)
pins: 1 D0 (in), 2 D1 (in), 3 D2 (in), 4 D3 (in), 5 D4 (in), 6 D5 (in), 7 D6 (in), 8 D7 (in), 9 RCLK (in), 10 SIN (in), 11 SOUT (out), 12 CS0 (in), 13 CS1 (in), 14 ~{CS2} (in), 15 ~{BAUDOUT} (out), 16 XIN (in), 17 XOUT (out), 18 ~{WR} (in), 19 WR (in), 20 VSS (power), 21 ~{RD} (in), 22 RD (in), 23 DDIS (out), 24 ~{TXRDY} (out), 25 ~{ADS} (in), 26 A2 (in), 27 A1 (in), 28 A0 (in), 29 ~{RXRDY} (out), 30 INTR (out), 31 ~{OUT2} (out), 32 ~{RTS} (out), 33 ~{DTR} (out), 34 ~{OUT1} (out), 35 MR (in), 36 ~{CTS} (in), 37 ~{DSR} (in), 38 ~{DCD} (in), 39 ~{RI} (in), 40 VDD (power)

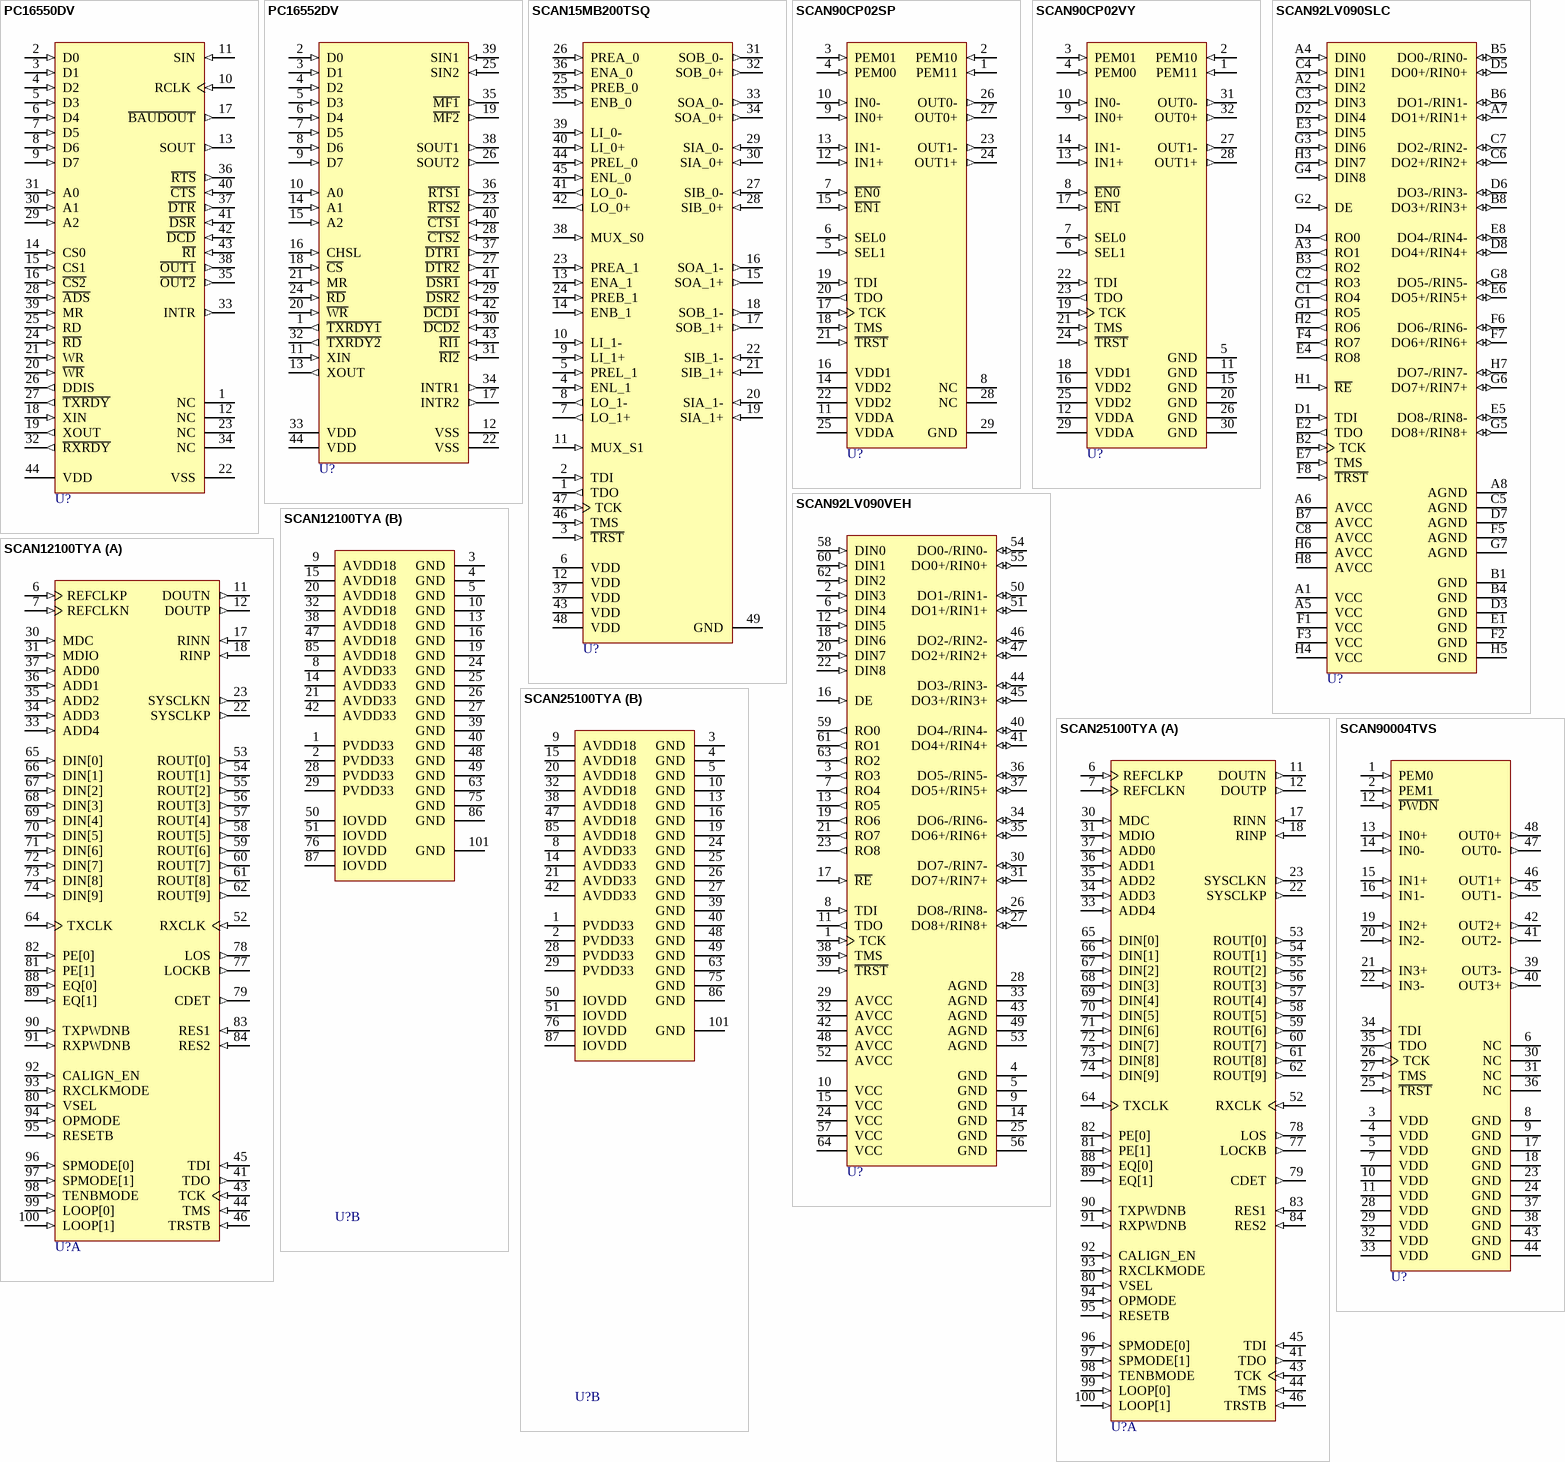
[diagram p38: symbols PC16550DV to SCAN90004TVS]

## PC16550DV
designator U?
Universal Asynchronous Receiver/Transmitter with FIFO's; PartNumber: PC16550DV; Manufacturer: National Semiconductor; CompType: Interface IC; PackageTopMarking: NSUZXYYTTE#*PC16550DV*PATENTED; PowerWise: N; Published: 4-Dec-2008; DatasheetVersion: Jun-1995; PackageVersion: revK, Dec-1993; PackageReference: V44A; Publisher: Altium Limited; PackageDescription: Plastic Chip Carrier, Sq., .050mil Lead Pitch, 44 Lead; RoHS: O; PinCount: 44; DigiKeyPartNumber: PC16550DV-ND; Code_IPC: PLCC-44; ComponentLink1Description: PC16550D Datasheet; ComponentLink1URL: http://www.national.com/ds/PC/PC16550D.pdf; ComponentLink2Description: PC16550D Web Page; ComponentLink2URL: http://www.national.com/pf/PC/PC16550D.html; ComponentLink3Description: V44A Package Page; ComponentLink3URL: http://www.national.com/packaging/folders/v44a.html
footprint V44A_N (Leaded Chip Carrier, 44-Leads, Body 16.6x16.6mm, Pitch 1.27mm, IPC Medium Density)
footprint V44A_L (Leaded Chip Carrier, 44-Leads, Body 16.6x16.6mm, Pitch 1.27mm, IPC High Density)
footprint V44A_M (Leaded Chip Carrier, 44-Leads, Body 16.6x16.6mm, Pitch 1.27mm, IPC Low Density)
pins: 1 NC, 2 D0 (in), 3 D1 (in), 4 D2 (in), 5 D3 (in), 6 D4 (in), 7 D5 (in), 8 D6 (in), 9 D7 (in), 10 RCLK (in), 11 SIN (in), 12 NC, 13 SOUT (out), 14 CS0 (in), 15 CS1 (in), 16 ~{CS2} (in), 17 ~{BAUDOUT} (out), 18 XIN (in), 19 XOUT (out), 20 ~{WR} (in), 21 WR (in), 22 VSS (power), 23 NC, 24 ~{RD} (in), 25 RD (in), 26 DDIS (out), 27 ~{TXRDY} (out), 28 ~{ADS} (in), 29 A2 (in), 30 A1 (in), 31 A0 (in), 32 ~{RXRDY} (out), 33 INTR (out), 34 NC, 35 ~{OUT2} (out), 36 ~{RTS} (out), 37 ~{DTR} (out), 38 ~{OUT1} (out), 39 MR (in), 40 ~{CTS} (in), 41 ~{DSR} (in), 42 ~{DCD} (in), 43 ~{RI} (in), 44 VDD (power)